# EAGLE library part DFPLAYER (library LARS_409_MODULES)
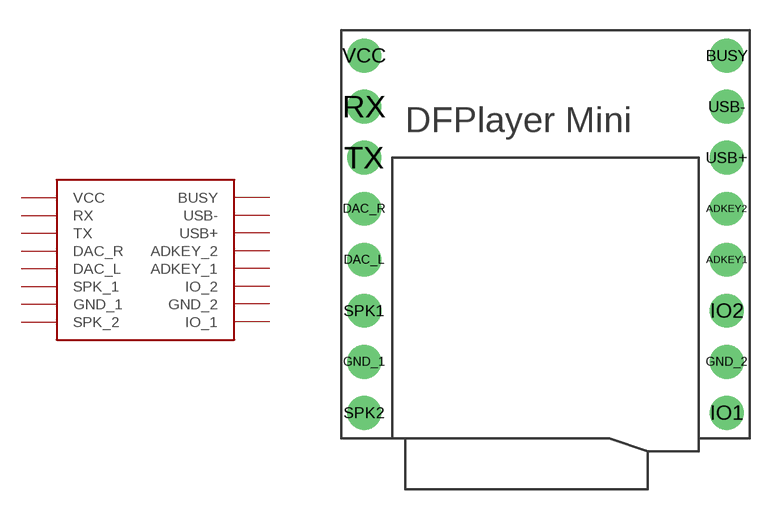
[diagram p3: symbol with the pads of DFPLAYER; footprint DFPLAYER]

Designator prefix -

## DFPLAYER  [DFPLAYER]
ADKEY1  ADKEY_1
ADKEY2  ADKEY_2
BUSY  BUSY
DAC_L  DAC_L
DAC_R  DAC_R
GND_1  GND_1
GND_2  GND_2
IO1  IO_1
IO2  IO_2
RX  RX
SPK1  SPK_1
SPK2  SPK_2
TX  TX
USB+  USB+
USB-  USB-
VCC  VCC

## Footprint DFPLAYER (pad centres in mm)
drill 1 pad 1.676: ADKEY1 9.017,-1.27; ADKEY2 9.017,1.27; BUSY 9.017,8.89; DAC_L -9.017,-1.27; DAC_R -9.017,1.27; GND_1 -9.017,-6.35; GND_2 9.017,-6.35; IO1 9.017,-8.89; IO2 9.017,-3.81; RX -9.017,6.35; SPK1 -9.017,-3.81; SPK2 -9.017,-8.89; TX -9.017,3.81; USB+ 9.017,3.81; USB- 9.017,6.35; VCC -9.017,8.89